# Altium footprint library RectangularConnectors.PcbLib: 154 footprints (part 10 of 10)
Each footprint in its own frame and in the unit in brackets; x right, y up, seen from the top. Pads: shape width x height; smd on the part's side, far side on the other; paste and mask are expansions set on the pad; w line width, h text height; cw(c..) or ccw(c..) is an arc to the next point about the centre after c.
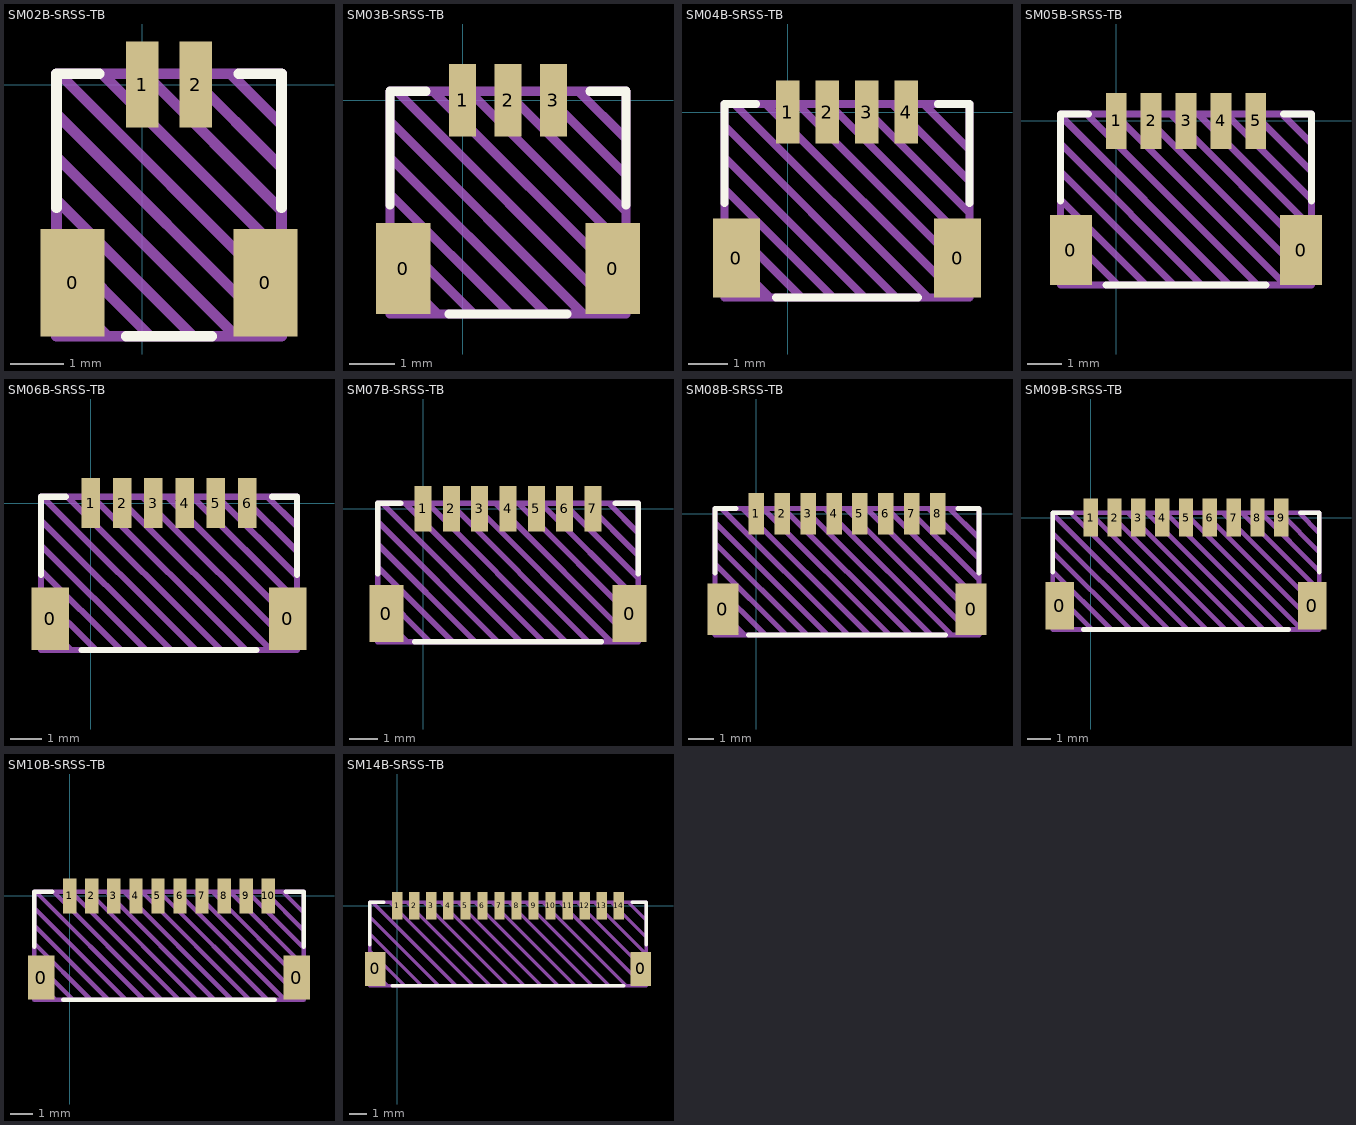
[diagram p9: the footprints below, top view; thin cyan lines are the x and y axes]

## SM02B-SRSS-TB [mm] "SH1.0"
pads (4):
  rect 1.2x2 smd: 0(-1.3,-3.7) 0(2.3,-3.7)
  rect 0.6x1.6 smd: 1(0,0) 2(1,0)
Top Overlay:
  lines w0.2: -1.6,-2.3 -1.6,0.2 -0.8,0.2 ; -0.3,-4.7 1.3,-4.7 ; 1.8,0.2 2.6,0.2 2.6,-2.3
Top Draw:
  lines w0.2: -1.6,-3.75 -0.65,-4.7 ; -1.6,-2.95 0.15,-4.7 ; -1.6,-2.15 0.95,-4.7 ; -1.6,-1.35 1.75,-4.7 ; -1.6,-0.55 2.55,-4.7 ; -1.55,0.2 2.6,-3.95 ; -0.75,0.2 2.6,-3.15 ; 0.05,0.2 2.6,-2.35 ; 0.85,0.2 2.6,-1.55 ; 1.65,0.2 2.6,-0.75 ; -1.6,-4.7 -1.6,0.2 2.6,0.2 2.6,-4.7 -1.6,-4.7
Top Info:
  text "'.Comment'" at -2.686,-5.837 h0.75
3D body "1734709-2.step": height 2.96, standoff 0.01, extent -1.65,-4.75 2.65,0.2

## SM03B-SRSS-TB [mm] "SH1.0"
pads (5):
  rect 1.2x2 smd: 0(-1.3,-3.7) 0(3.3,-3.7)
  rect 0.6x1.6 smd: 1(0,0) 2(1,0) 3(2,0)
Top Overlay:
  lines w0.2: -1.6,-2.3 -1.6,0.2 -0.8,0.2 ; -0.3,-4.7 2.3,-4.7 ; 2.8,0.2 3.6,0.2 3.6,-2.3
Top Draw:
  lines w0.2: -1.6,-3.65 -0.55,-4.7 ; -1.6,-2.85 0.25,-4.7 ; -1.6,-2.05 1.05,-4.7 ; -1.6,-1.25 1.85,-4.7 ; -1.6,-0.45 2.65,-4.7 ; -1.45,0.2 3.45,-4.7 ; -0.65,0.2 3.6,-4.05 ; 0.15,0.2 3.6,-3.25 ; 0.95,0.2 3.6,-2.45 ; 1.75,0.2 3.6,-1.65 ; 2.55,0.2 3.6,-0.85 ; -1.6,-4.7 -1.6,0.2 3.6,0.2 3.6,-4.7 -1.6,-4.7
Top Info:
  text "'.Comment'" at -2.186,-5.837 h0.75
3D body "1734709-3.step": height 2.96, standoff 0.01, extent -1.65,-4.7 3.65,0.25

## SM04B-SRSS-TB [mm] "SH1.0"
pads (6):
  rect 1.2x2 smd: 0(-1.3,-3.7) 0(4.3,-3.7)
  rect 0.6x1.6 smd: 1(0,0) 2(1,0) 3(2,0) 4(3,0)
Top Overlay:
  lines w0.2: -1.6,-2.3 -1.6,0.2 -0.8,0.2 ; -0.3,-4.7 3.3,-4.7 ; 3.8,0.2 4.6,0.2 4.6,-2.3
Top Draw:
  lines w0.2: -1.6,-3.55 -0.45,-4.7 ; -1.6,-2.75 0.35,-4.7 ; -1.6,-1.95 1.15,-4.7 ; -1.6,-1.15 1.95,-4.7 ; -1.6,-0.35 2.75,-4.7 ; -1.35,0.2 3.55,-4.7 ; -0.55,0.2 4.35,-4.7 ; 0.25,0.2 4.6,-4.15 ; 1.05,0.2 4.6,-3.35 ; 1.85,0.2 4.6,-2.55 ; 2.65,0.2 4.6,-1.75 ; 3.45,0.2 4.6,-0.95 ; -1.6,-4.7 -1.6,0.2 4.6,0.2 4.6,-4.7 -1.6,-4.7
Top Info:
  text "'.Comment'" at -1.686,-5.837 h0.75
3D body "1734709-4.step": height 2.96, standoff 0.01, extent -1.65,-4.7 4.65,0.25

## SM05B-SRSS-TB [mm] "SH1.0"
pads (7):
  rect 1.2x2 smd: 0(-1.3,-3.7) 0(5.3,-3.7)
  rect 0.6x1.6 smd: 1(0,0) 2(1,0) 3(2,0) 4(3,0) 5(4,0)
Top Overlay:
  lines w0.2: -1.6,-2.3 -1.6,0.2 -0.8,0.2 ; -0.3,-4.7 4.3,-4.7 ; 4.8,0.2 5.6,0.2 5.6,-2.3
Top Draw:
  lines w0.2: -1.6,-3.85 -0.75,-4.7 ; -1.6,-3.05 0.05,-4.7 ; -1.6,-2.25 0.85,-4.7 ; -1.6,-1.45 1.65,-4.7 ; -1.6,-0.65 2.45,-4.7 ; -1.6,0.15 3.25,-4.7 ; -0.85,0.2 4.05,-4.7 ; -0.05,0.2 4.85,-4.7 ; 0.75,0.2 5.6,-4.65 ; 1.55,0.2 5.6,-3.85 ; 2.35,0.2 5.6,-3.05 ; 3.15,0.2 5.6,-2.25 ; 3.95,0.2 5.6,-1.45 ; 4.75,0.2 5.6,-0.65 ; -1.6,-4.7 -1.6,0.2 5.6,0.2 5.6,-4.7 -1.6,-4.7
Top Info:
  text "'.Comment'" at -1.186,-5.837 h0.75
3D body "1734709-5.step": height 2.96, standoff 0.01, extent -1.65,-4.7 5.65,0.25

## SM06B-SRSS-TB [mm] "SH1.0"
pads (8):
  rect 1.2x2 smd: 0(-1.3,-3.7) 0(6.3,-3.7)
  rect 0.6x1.6 smd: 1(0,0) 2(1,0) 3(2,0) 4(3,0) 5(4,0) 6(5,0)
Top Overlay:
  lines w0.2: -1.6,-2.3 -1.6,0.2 -0.8,0.2 ; -0.3,-4.7 5.3,-4.7 ; 5.8,0.2 6.6,0.2 6.6,-2.3
Top Draw:
  lines w0.2: -1.6,-3.75 -0.65,-4.7 ; -1.6,-2.95 0.15,-4.7 ; -1.6,-2.15 0.95,-4.7 ; -1.6,-1.35 1.75,-4.7 ; -1.6,-0.55 2.55,-4.7 ; -1.55,0.2 3.35,-4.7 ; -0.75,0.2 4.15,-4.7 ; 0.05,0.2 4.95,-4.7 ; 0.85,0.2 5.75,-4.7 ; 1.65,0.2 6.55,-4.7 ; 2.45,0.2 6.6,-3.95 ; 3.25,0.2 6.6,-3.15 ; 4.05,0.2 6.6,-2.35 ; 4.85,0.2 6.6,-1.55 ; 5.65,0.2 6.6,-0.75 ; -1.6,-4.7 -1.6,0.2 6.6,0.2 6.6,-4.7 -1.6,-4.7
Top Info:
  text "'.Comment'" at -0.686,-5.837 h0.75
3D body "1734709-6.step": height 2.96, standoff 0.01, extent -1.65,-4.7 6.65,0.25

## SM07B-SRSS-TB [mm] "SH1.0"
pads (9):
  rect 1.2x2 smd: 0(-1.3,-3.7) 0(7.3,-3.7)
  rect 0.6x1.6 smd: 1(0,0) 2(1,0) 3(2,0) 4(3,0) 5(4,0) 6(5,0) 7(6,0)
Top Overlay:
  lines w0.2: -1.6,-2.3 -1.6,0.2 -0.8,0.2 ; -0.3,-4.7 6.3,-4.7 ; 6.8,0.2 7.6,0.2 7.6,-2.3
Top Draw:
  lines w0.2: -1.6,-3.65 -0.55,-4.7 ; -1.6,-2.85 0.25,-4.7 ; -1.6,-2.05 1.05,-4.7 ; -1.6,-1.25 1.85,-4.7 ; -1.6,-0.45 2.65,-4.7 ; -1.45,0.2 3.45,-4.7 ; -0.65,0.2 4.25,-4.7 ; 0.15,0.2 5.05,-4.7 ; 0.95,0.2 5.85,-4.7 ; 1.75,0.2 6.65,-4.7 ; 2.55,0.2 7.45,-4.7 ; 3.35,0.2 7.6,-4.05 ; 4.15,0.2 7.6,-3.25 ; 4.95,0.2 7.6,-2.45 ; 5.75,0.2 7.6,-1.65 ; 6.55,0.2 7.6,-0.85 ; -1.6,-4.7 -1.6,0.2 7.6,0.2 7.6,-4.7 -1.6,-4.7
Top Info:
  text "'.Comment'" at -0.186,-5.837 h0.75
3D body "1734709-7.step": height 2.96, standoff 0.01, extent -1.65,-4.7 7.65,0.25

## SM08B-SRSS-TB [mm] "SH1.0"
pads (10):
  rect 1.2x2 smd: 0(-1.3,-3.7) 0(8.3,-3.7)
  rect 0.6x1.6 smd: 1(0,0) 2(1,0) 3(2,0) 4(3,0) 5(4,0) 6(5,0) 7(6,0) 8(7,0)
Top Overlay:
  lines w0.2: -1.6,-2.3 -1.6,0.2 -0.8,0.2 ; -0.3,-4.7 7.3,-4.7 ; 7.8,0.2 8.6,0.2 8.6,-2.3
Top Draw:
  lines w0.2: -1.6,-3.55 -0.45,-4.7 ; -1.6,-2.75 0.35,-4.7 ; -1.6,-1.95 1.15,-4.7 ; -1.6,-1.15 1.95,-4.7 ; -1.6,-0.35 2.75,-4.7 ; -1.35,0.2 3.55,-4.7 ; -0.55,0.2 4.35,-4.7 ; 0.25,0.2 5.15,-4.7 ; 1.05,0.2 5.95,-4.7 ; 1.85,0.2 6.75,-4.7 ; 2.65,0.2 7.55,-4.7 ; 3.45,0.2 8.35,-4.7 ; 4.25,0.2 8.6,-4.15 ; 5.05,0.2 8.6,-3.35 ; 5.85,0.2 8.6,-2.55 ; 6.65,0.2 8.6,-1.75 ; 7.45,0.2 8.6,-0.95 ; -1.6,-4.7 -1.6,0.2 8.6,0.2 8.6,-4.7 -1.6,-4.7
Top Info:
  text "'.Comment'" at 0.314,-5.837 h0.75
3D body "1734709-8.step": height 2.96, standoff 0.01, extent -1.65,-4.7 8.65,0.25

## SM09B-SRSS-TB [mm] "SH1.0"
pads (11):
  rect 1.2x2 smd: 0(-1.3,-3.7) 0(9.3,-3.7)
  rect 0.6x1.6 smd: 1(0,0) 2(1,0) 3(2,0) 4(3,0) 5(4,0) 6(5,0) 7(6,0) 8(7,0) 9(8,0)
Top Overlay:
  lines w0.2: -1.6,-2.3 -1.6,0.2 -0.8,0.2 ; -0.3,-4.7 8.3,-4.7 ; 8.8,0.2 9.6,0.2 9.6,-2.3
Top Draw:
  lines w0.2: -1.6,-3.85 -0.75,-4.7 ; -1.6,-3.05 0.05,-4.7 ; -1.6,-2.25 0.85,-4.7 ; -1.6,-1.45 1.65,-4.7 ; -1.6,-0.65 2.45,-4.7 ; -1.6,0.15 3.25,-4.7 ; -0.85,0.2 4.05,-4.7 ; -0.05,0.2 4.85,-4.7 ; 0.75,0.2 5.65,-4.7 ; 1.55,0.2 6.45,-4.7 ; 2.35,0.2 7.25,-4.7 ; 3.15,0.2 8.05,-4.7 ; 3.95,0.2 8.85,-4.7 ; 4.75,0.2 9.6,-4.65 ; 5.55,0.2 9.6,-3.85 ; 6.35,0.2 9.6,-3.05 ; 7.15,0.2 9.6,-2.25 ; 7.95,0.2 9.6,-1.45 ; 8.75,0.2 9.6,-0.65 ; -1.6,-4.7 9.6,-4.7 9.6,0.2 -1.6,0.2 -1.6,-4.7
Top Info:
  text "'.Comment'" at 0.814,-5.837 h0.75
3D body "1734709-9.step": height 2.96, standoff 0.01, extent -1.65,-4.7 9.65,0.25

## SM10B-SRSS-TB [mm] "SH1.0"
pads (12):
  rect 1.2x2 smd: 0(-1.3,-3.7) 0(10.3,-3.7)
  rect 0.6x1.6 smd: 1(0,0) 2(1,0) 3(2,0) 4(3,0) 5(4,0) 6(5,0) 7(6,0) 8(7,0) 9(8,0) 10(9,0)
Top Overlay:
  lines w0.2: -1.6,-2.3 -1.6,0.2 -0.8,0.2 ; -0.3,-4.7 9.3,-4.7 ; 9.8,0.2 10.6,0.2 10.6,-2.3
Top Draw:
  lines w0.2: -1.6,-3.75 -0.65,-4.7 ; -1.6,-2.95 0.15,-4.7 ; -1.6,-2.15 0.95,-4.7 ; -1.6,-1.35 1.75,-4.7 ; -1.6,-0.55 2.55,-4.7 ; -1.55,0.2 3.35,-4.7 ; -0.75,0.2 4.15,-4.7 ; 0.05,0.2 4.95,-4.7 ; 0.85,0.2 5.75,-4.7 ; 1.65,0.2 6.55,-4.7 ; 2.45,0.2 7.35,-4.7 ; 3.25,0.2 8.15,-4.7 ; 4.05,0.2 8.95,-4.7 ; 4.85,0.2 9.75,-4.7 ; 5.65,0.2 10.55,-4.7 ; 6.45,0.2 10.6,-3.95 ; 7.25,0.2 10.6,-3.15 ; 8.05,0.2 10.6,-2.35 ; 8.85,0.2 10.6,-1.55 ; 9.65,0.2 10.6,-0.75 ; -1.6,-4.7 10.6,-4.7 10.6,0.2 -1.6,0.2 -1.6,-4.7
Top Info:
  text "'.Comment'" at 1.314,-5.837 h0.75
3D body "1734709-10.step": height 2.96, standoff 0.01, extent -1.65,-4.7 10.65,0.25

## SM14B-SRSS-TB [mm] "SH1.0"
pads (16):
  rect 1.2x2 smd: 0(-1.3,-3.7) 0(14.3,-3.7)
  rect 0.6x1.6 smd: 1(0,0) 2(1,0) 3(2,0) 4(3,0) 5(4,0) 6(5,0) 7(6,0) 8(7,0) 9(8,0) 10(9,0) 11(10,0) 12(11,0) 13(12,0) 14(13,0)
Top Overlay:
  lines w0.2: -1.6,-2.3 -1.6,0.2 -0.8,0.2 ; -0.3,-4.7 13.3,-4.7 ; 13.8,0.2 14.6,0.2 14.6,-2.3
Top Draw:
  lines w0.2: -1.6,-3.65 -0.55,-4.7 ; -1.6,-2.65 0.45,-4.7 ; -1.6,-1.65 1.45,-4.7 ; -1.6,-0.65 2.45,-4.7 ; -1.45,0.2 3.45,-4.7 ; -0.45,0.2 4.45,-4.7 ; 0.55,0.2 5.45,-4.7 ; 1.55,0.2 6.45,-4.7 ; 2.55,0.2 7.45,-4.7 ; 3.55,0.2 8.45,-4.7 ; 4.55,0.2 9.45,-4.7 ; 5.55,0.2 10.45,-4.7 ; 6.55,0.2 11.45,-4.7 ; 7.55,0.2 12.45,-4.7 ; 8.55,0.2 13.45,-4.7 ; 9.55,0.2 14.45,-4.7 ; 10.55,0.2 14.6,-3.85 ; 11.55,0.2 14.6,-2.85 ; 12.55,0.2 14.6,-1.85 ; 13.55,0.2 14.6,-0.85 ; -1.6,-4.7 14.6,-4.7 14.6,0.2 -1.6,0.2 -1.6,-4.7
Top Info:
  text "'.Comment'" at 3.314,-5.837 h0.75
3D body "1734709-14.step": height 2.96, standoff 0.01, extent -1.65,-4.7 14.65,0.25